# Altium schematic symbol library AX3DAF1.SchLib: 1 symbol
Pins are listed as number, name and electrical type; pins without a type are passive.

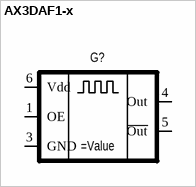
[diagram p0: symbol AX3DAF1-x]

## AX3DAF1-x
designator G?
Value: =Value
pins: 1 OE, 3 GND, 4 Out, 5 ~{Out}, 6 Vdd